# EAGLE library part I2CPORTX2 (library 3M_Ports)
I²Cポート
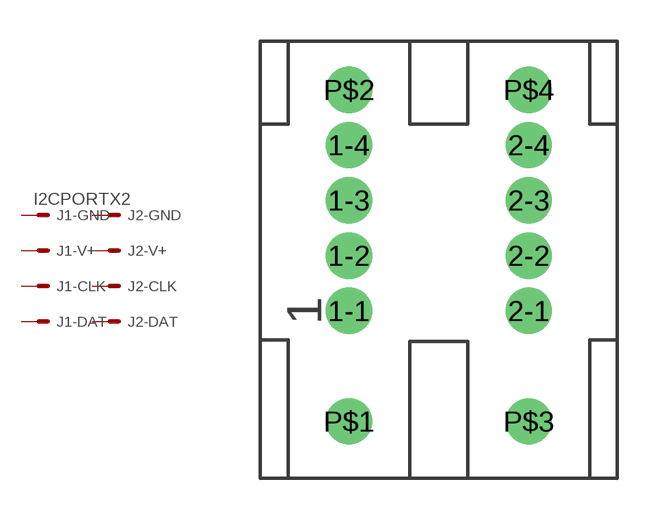
[diagram p0: symbol with the pads of 37208-62A3-004; footprint 37208-62A3-004]

Designator prefix J; gates 1-GND=MV 1-CLK=M 1-V+=M 1-DAT=M 2-GND=M 2-V+=M 2-CLK=M 2-DAT=M

## I2CPORTX2  [37208-62A3-004]
1-1  1-GND:S  pas
1-2  1-V+:S  pas
1-3  1-CLK:S  pas
1-4  1-DAT:S  pas
2-1  2-GND:S  pas
2-2  2-V+:S  pas
2-3  2-CLK:S  pas
2-4  2-DAT:S  pas

## Footprint 37208-62A3-004 (pad centres in mm)
drill 1 pad 1.676: 1-1 0,4; 1-2 0,6; 1-3 0,8; 1-4 0,10; 2-1 6.5,4; 2-2 6.5,6; 2-3 6.5,8; 2-4 6.5,10; P$1 0,0; P$2 0,12; P$3 6.5,0; P$4 6.5,12